# Altium footprint library SC16IS741AIPWJ.PcbLib: 1 footprints
Each footprint in its own frame and in the unit in brackets; x right, y up, seen from the top. Pads: shape width x height; smd on the part's side, far side on the other; paste and mask are expansions set on the pad; w line width, h text height; cw(c..) or ccw(c..) is an arc to the next point about the centre after c.
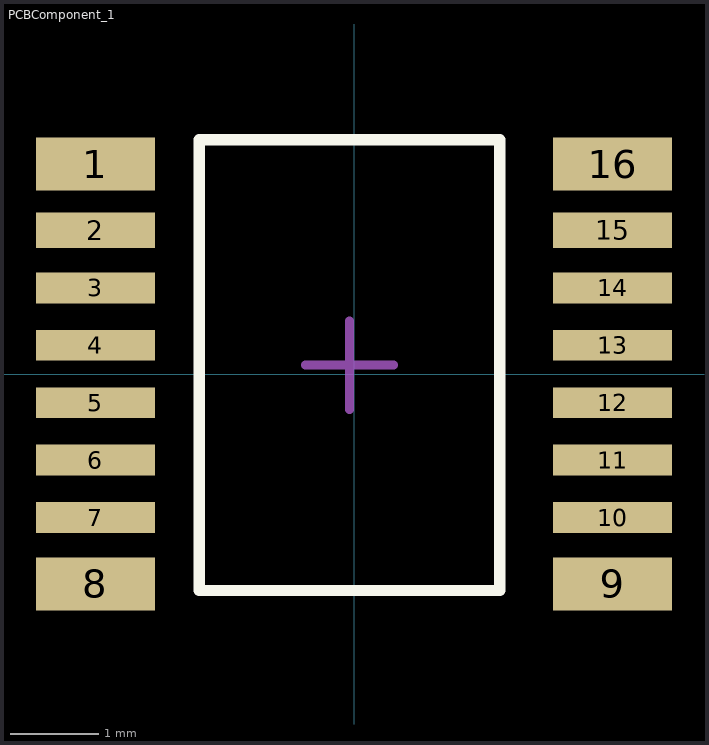
[diagram p0: the footprint, top view; thin cyan lines are the x and y axes]

## PCBComponent_1 [mm]
pads (16):
  rect 1.35x0.6 smd: 1(-2.925,2.375) 8(-2.925,-2.375) 9(2.925,-2.375) 16(2.925,2.375)
  rect 1.35x0.4 smd: 2(-2.925,1.625) 15(2.925,1.625)
  rect 1.35x0.35 smd: 3(-2.925,0.975) 4(-2.925,0.325) 5(-2.925,-0.325) 6(-2.925,-0.975) 7(-2.925,-1.625) 10(2.925,-1.625) 11(2.925,-0.975) 12(2.925,-0.325) 13(2.925,0.325) 14(2.925,0.975)
Top Overlay:
  lines w0.127: -1.75,-2.45 -1.75,2.65 1.65,2.65 1.65,-2.45 -1.75,-2.45
  text "." at -4.216,2.38 h0.38
Mechanical 15:
  lines w0.1: -0.55,0.1 0.45,0.1 ; -0.05,-0.4 -0.05,0.6
3D body "TSSOP16.step": height 1.09, standoff 0, extent -3.19,-2.492 3.09,2.508